# EAGLE library part TL082CP (library TL082CP)
Check availability <https://pricing.snapeda.com/parts/TL082CP/Texas%20Instruments/view-part?ref=eda>
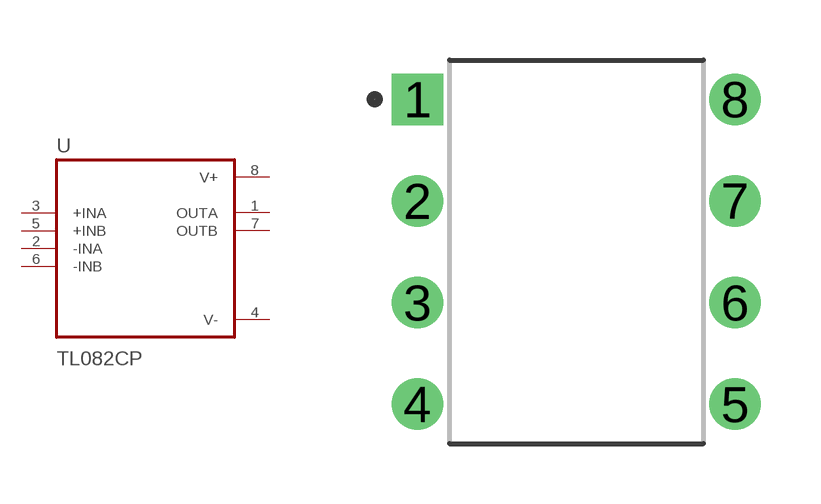
[diagram p0: symbol with the pads of DIP794W45P254L959H508Q8; footprint DIP794W45P254L959H508Q8]

Designator prefix U

## TL082CP (Availability: In Stock; Check_prices: https://www.snapeda.com/parts/TL082CP/Texas+Instruments/view-part/?ref=eda; Description: Dual, 30-V, 3-MHz, 13-V/µs slew rate, In to V+, JFET-input op amp; MF: Texas Instruments; MP: TL082CP; Package: PDIP-8 Texas; Price: None; Purchase-URL: https://www.snapeda.com/api/url_track_click_mouser/?unipart_id=854431&manufacturer=Texas Instruments&part_name=TL082CP&search_term=tl082; SnapEDA_Link: https://www.snapeda.com/parts/TL082CP/Texas+Instruments/view-part/?ref=snap)  [DIP794W45P254L959H508Q8]
1  OUTA  out
2  -INA  in
3  +INA  in
4  V-  pwr
5  +INB  in
6  -INB  in
7  OUTB  out
8  V+  pwr

## Footprint DIP794W45P254L959H508Q8 (pad centres in mm)
drill 0.78 pad 1.13 square: 1 -3.97,3.81
drill 0.78 pad 1.13: 2 -3.97,1.27; 3 -3.97,-1.27; 4 -3.97,-3.81; 5 3.97,-3.81; 6 3.97,-1.27; 7 3.97,1.27; 8 3.97,3.81